# EAGLE library part MCP73844 (library template)
Advanced Single or Dual Cell Lithium-Ion/Lithium-Polymer Charge Management Controllers
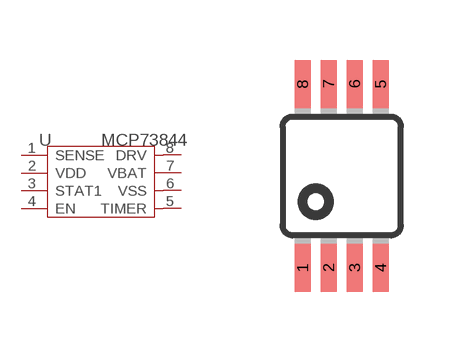
[diagram p13: symbol with the pads of MSOP8; footprint MSOP8]

Designator prefix U

## MCP73844  [MSOP8]
1  SENSE  in
2  VDD  in
3  STAT1  out
4  EN  in
5  TIMER  in
6  VSS  sup
7  VBAT  in
8  DRV  out

## Footprint MSOP8 (pad centres in mm)
8M, 8-Lead, 0.118" Wide, Miniature Small Outline Package MSOP 8M-Package doc1097.pdf
smd 0.4 x 1.2: 1 -0.975,-2.3; 2 -0.325,-2.3; 3 0.325,-2.3; 4 0.975,-2.3; 5 0.975,2.3; 6 0.325,2.3; 7 -0.325,2.3; 8 -0.975,2.3